# Altium schematic symbol library KBP208G.SchLib: 1 symbol
Pins are listed as number, name and electrical type; pins without a type are passive.

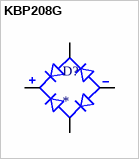
[diagram p0: symbol KBP208G]

## KBP208G
designator D?
Bridge Rectifier Single Phase Standard 100 V Through Hole KBP; MF: GeneSiC Semiconductor; MP: KBP202G; SnapEDA_Link: https://www.snapeda.com/parts/KBP202G/GeneSiC+Semiconductor/view-part/?ref=snap; Package: SIP-4 GeneSiC Semiconductor; Value: *; Check_prices: https://www.snapeda.com/parts/KBP202G/GeneSiC+Semiconductor/view-part/?ref=eda
footprint SIP350W80P400L1450H1280Q4
pins: 1 POS, 2 AC1, 3 AC2, 4 NEG